# EAGLE library part AD650SD (library AD650SD)
ANALOG DEVICES - AD650SD - V/F/V CONVERTER, 1MHZ, DIP-14 Source: Datasheet <https://www.analog.com/media/en/technical-documentation/data-sheets/AD650.pdf>
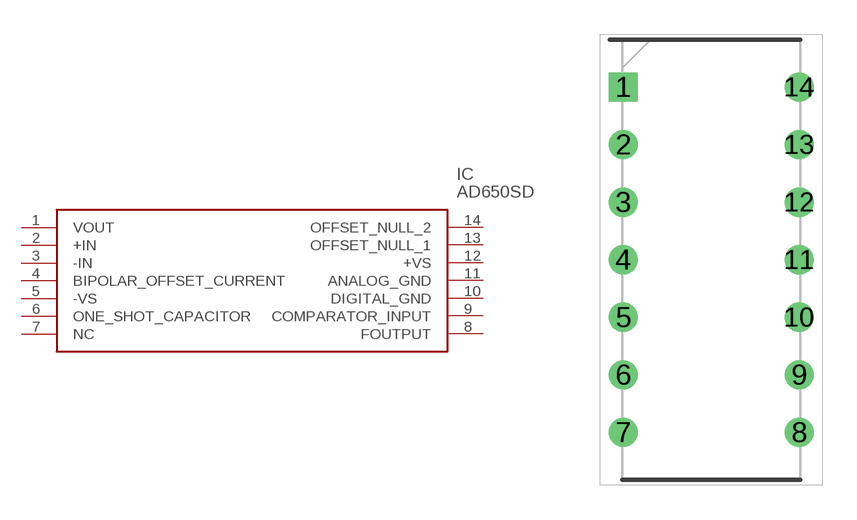
[diagram p0: symbol with the pads of DIP775W58P254L1943H508Q14N; footprint DIP775W58P254L1943H508Q14N]

Designator prefix IC

## AD650SD (Arrow_Part_Number: AD650SD; Arrow_Price-Stock: https://www.arrow.com/en/products/ad650sd/analog-devices; Description: ANALOG DEVICES - AD650SD - V/F/V CONVERTER, 1MHZ, DIP-14; Height: 5.08mm; Manufacturer_Name: Analog Devices; Manufacturer_Part_Number: AD650SD; Mouser_Part_Number: 584-AD650SD; Mouser_Price-Stock: https://www.mouser.co.uk/ProductDetail/Analog-Devices/AD650SD?qs=NmRFExCfTkGUYsKvHm%2FjFQ%3D%3D)  [DIP775W58P254L1943H508Q14N]
1  VOUT
2  +IN
3  -IN
4  BIPOLAR_OFFSET_CURRENT
5  -VS
6  ONE_SHOT_CAPACITOR
7  NC  nc
8  FOUTPUT
9  COMPARATOR_INPUT
10  DIGITAL_GND
11  ANALOG_GND
12  +VS
13  OFFSET_NULL_1
14  OFFSET_NULL_2

## Footprint DIP775W58P254L1943H508Q14N (pad centres in mm)
SBDIP d14
drill 0.78 pad 1.18 square: 1 -3.875,7.62
drill 0.78 pad 1.18: 2 -3.875,5.08; 3 -3.875,2.54; 4 -3.875,0; 5 -3.875,-2.54; 6 -3.875,-5.08; 7 -3.875,-7.62; 8 3.875,-7.62; 9 3.875,-5.08; 10 3.875,-2.54; 11 3.875,0; 12 3.875,2.54; 13 3.875,5.08; 14 3.875,7.62